# Altium integrated library STM32L011D3.IntLib: 1 symbol
Pins are listed as number, name and electrical type; pins without a type are passive.

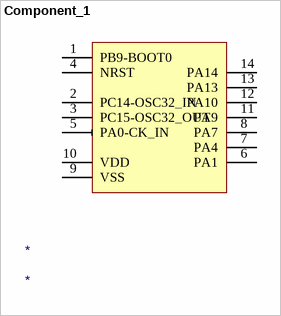
[diagram p0: symbol Component_1]

## Component_1
designator *
footprint PCBComponent_1
pins: 1 PB9-BOOT0, 2 PC14-OSC32_IN, 3 PC15-OSC32_OUT, 4 NRST, 5 PA0-CK_IN, 6 PA1, 7 PA4, 8 PA7, 9 VSS, 10 VDD, 11 PA9, 12 PA10, 13 PA13, 14 PA14